# EAGLE library part AD7980-MSOP10 (library Neel)
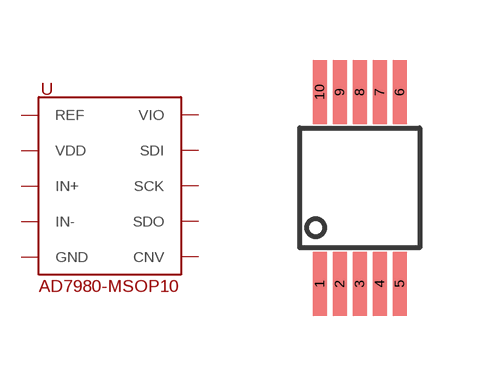
[diagram p58: symbol with the pads of MSOP-10; footprint MSOP-10]

Designator prefix U

## AD7980-MSOP10  [MSOP-10]
1  REF
2  VDD
3  IN+
4  IN-
5  GND
6  CNV
7  SDO
8  SCK
9  SDI
10  VIO

## Footprint MSOP-10 (pad centres in mm)
smd 0.35 x 1.6: 1 -1,-2.4; 2 -0.5,-2.4; 3 0,-2.4; 4 0.5,-2.4; 5 1,-2.4; 6 1,2.4; 7 0.5,2.4; 8 0,2.4; 9 -0.5,2.4; 10 -1,2.4